# Altium footprint library MTGPH100.PcbLib: 1 footprints
Each footprint in its own frame and in the unit in brackets; x right, y up, seen from the top. Pads: shape width x height; smd on the part's side, far side on the other; paste and mask are expansions set on the pad; w line width, h text height; cw(c..) or ccw(c..) is an arc to the next point about the centre after c.
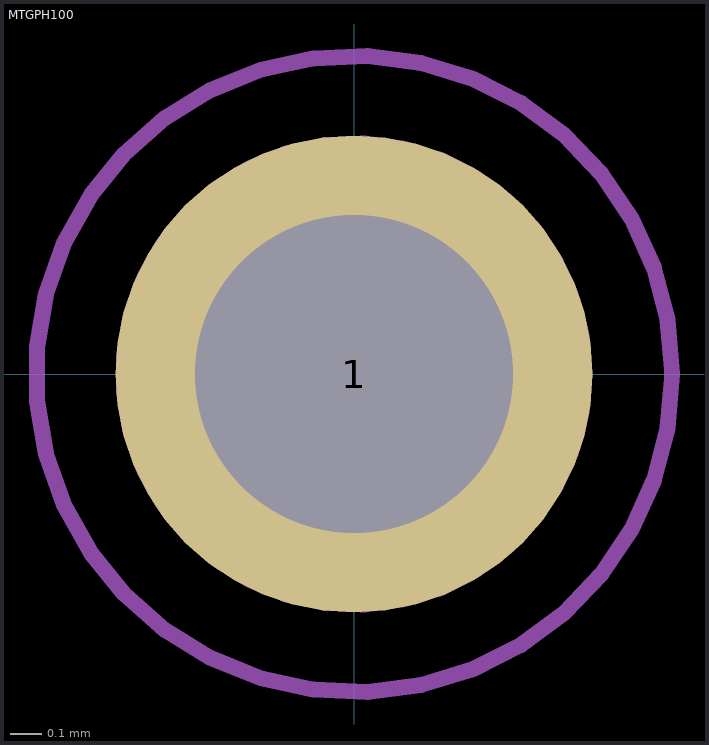
[diagram p0: the footprint, top view; thin cyan lines are the x and y axes]

## MTGPH100 [mm] "Mounting Hole, Plated; 1.50 mm Pad, 1.00 mm Hole"
pads (1):
  round 1.5 hole 1 paste-1.5: 1(0,0)
Mechanical 3:
  circle w0.12: c0,0 r0.69
  circle w0.12: c0,0 r0.44
Mechanical 4:
  circle w0.12: c0,0 r0.69
  circle w0.12: c0,0 r0.44
Mechanical 7:
  circle w0.05: c0,0 r1
  circle w0.05: c0,0 r0.25
  lines w0.05: -0.35,0 0.35,0 ; 0,-0.35 0,0.35
Mechanical 9:
  text "'.Designator'" at -5.08,-0.254 h1